# Altium integrated library FT600Q-B-T.IntLib: 1 symbol
Pins are listed as number, name and electrical type; pins without a type are passive.

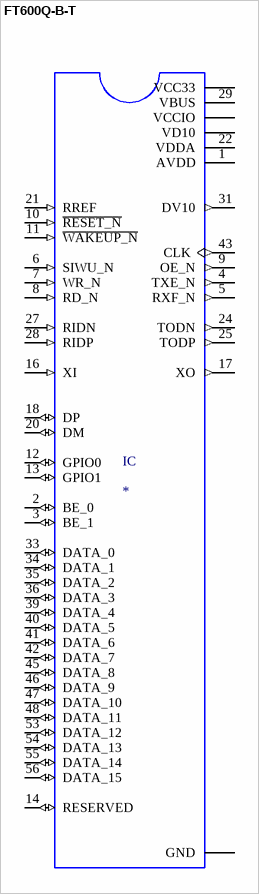
[diagram p0: symbol FT600Q-B-T]

## FT600Q-B-T
designator IC
USB Bridge, USB to FIFO USB 3.0 FIFO Interface 56-QFN _7x7_; MP: FT600Q-B-T; MF: FTDI,; SnapEDA_Link: https://www.snapeda.com/parts/FT600Q-B-T/FTDI%2C%20Future%20Technology%20Devices%20International%20Ltd/view-part/587466/?ref=snap; Price: None; Value: *; Availability: Unavailable; Package: QFN-56 FTDI
footprint QFN40P700X700X85-57N
pins: 1 AVDD (power), 2 BE_0 (io), 3 BE_1 (io), 4 TXE_N (out), 5 RXF_N (out), 6 SIWU_N (in), 7 WR_N (in), 8 RD_N (in), 9 OE_N (out), 10 ~{RESET_N} (in), 11 ~{WAKEUP_N} (in), 12 GPIO0 (io), 13 GPIO1 (io), 14 RESERVED (io), 15 VCC33 (power), 16 XI (in), 17 XO (out), 18 DP (io), 19 VCC33 (power), 20 DM (io), 21 RREF (in), 22 VDDA (power), 23 VD10 (power), 24 TODN (out), 25 TODP (out), 26 VD10 (power), 27 RIDN (in), 28 RIDP (in), 29 VBUS (power), 30 VCC33 (power), 31 DV10 (out), 32 GND, 33 DATA_0 (io), 34 DATA_1 (io), 35 DATA_2 (io), 36 DATA_3 (io), 37 VD10 (power), 38 VCCIO (power), 39 DATA_4 (io), 40 DATA_5 (io), 41 DATA_6 (io), 42 DATA_7 (io), 43 CLK (out), 44 VCCIO (power), 45 DATA_8 (io), 46 DATA_9 (io), 47 DATA_10 (io), 48 DATA_11 (io), 49 GND, 50 VD10 (power), 51 GND, 52 VCCIO (power), 53 DATA_12 (io), 54 DATA_13 (io), 55 DATA_14 (io), 56 DATA_15 (io)